# EAGLE library part 691418420006 (library WR-TBL Spring Clamp)
WR-TBL Serie 4184 - 7.62 mm 45° Entry Screwless KIND PROPERTIES Pitch 7.62 mm MATERIAL PROPERTIES Insulator Material PA6/66 Insulator Flammability Rating UL94 V-0 Insulator Color Grey Contact Material Phosphor Bronze Contact Plating Matte Tin Wire Guard Material Phosphor Bronze GENERAL INFORMATION Operating Temperature -30 up to +120 °C Compliance Lead free / RoHS ELECTRICAL PROPERTIES IR UL 4 A IR VDE 4 A Working Voltage [UL] 300 V (AC) Working Voltage [VDE] 750 V (AC) Withstanding Voltage [UL] 1600 V (AC) Withstanding Voltage [VDE] 2500 V (AC) Contact Resistance 20 mΩ Mechanical Properties Wire Strip Length 7 (mm) Wire Properties Solid Wire Section (AWG) 16 to 30 (AWG) Solid Wire Section (Metric) 1.31 to 0.0509 (mm²) Stranded Wire Section (AWG) 16 to 30 (AWG) Stranded Wire Section (Metric) 1.31 to 0.0509 (mm²) CERTIFICATION UL Approval E150931 VDE Approval 40013441 Packaging Properties Packaging Box Details see: www.we-online.com/en/components/products/TBL_7_62_4184_45-DEGREE_CABLE_ENTRY_SCREWLESS_6914184200XX/ Updated by Ella Wu 2019-12-31 2019(C) Würth Elektronik
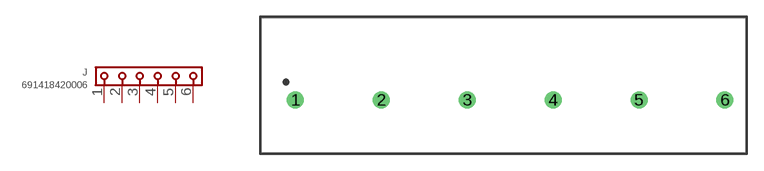
[diagram p44: symbol with the pads of 691418420006; footprint 691418420006]

Designator prefix J

## 691418420006 (APPLICATION: Screwless; DATASHEET: https://www.we-online.com/redexpert/spec/691418420006?ae; IR-UL: 4A; MODULARITY: No; MOUNT: THT; PART-NUMBER: 691418420006; PINS: 6; PITCH: 7.62mm; TYPE: 45°; VALUE: 691418420006; WIRE: 16 to 30 (AWG) 1.31 to 0.0509 (mm²); WORKING-VOLTAGE-UL: 300V (AC))  [691418420006]
1  1  pas
2  2  pas
3  3  pas
4  4  pas
5  5  pas
6  6  pas

## Footprint 691418420006 (pad centres in mm)
WR-TBL Serie 4184 - 7.62 mm 45° Entry Screwless Max Height = 13.2mm , Pitch 7.62mm , 6pins
drill 1: 1 -19.05,0; 2 -11.43,0; 3 -3.81,0; 4 3.81,0; 5 11.43,0; 6 19.05,0